# EAGLE library part WS2811 (library WS2811)
WS2811 DIP8
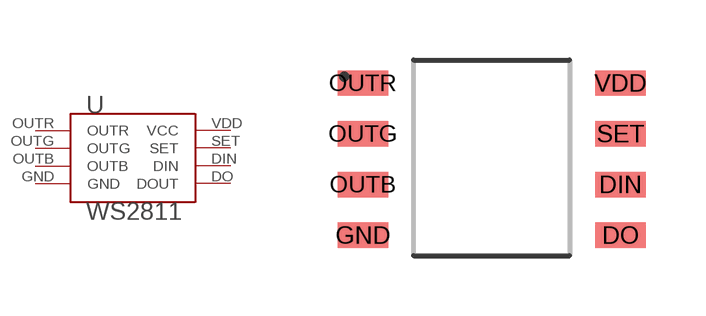
[diagram p0: symbol with the pads of WS2811; footprint WS2811]

Designator prefix -

## WS2811  [WS2811]
DIN  DIN  in
DO  DOUT  out
GND  GND  pwr
OUTB  OUTB  out
OUTG  OUTG  out
OUTR  OUTR  out
SET  SET  in
VDD  VCC  pwr

## Footprint WS2811 (pad centres in mm)
smd 1.27 x 0.635: DIN 3.22,-0.67; DO 3.22,-1.94; GND -3.22,-1.94; OUTB -3.22,-0.67; OUTG -3.22,0.6; OUTR -3.22,1.87; SET 3.22,0.6; VDD 3.22,1.87